# EAGLE library part DAUGHTERBOARD (library Daughterboard)
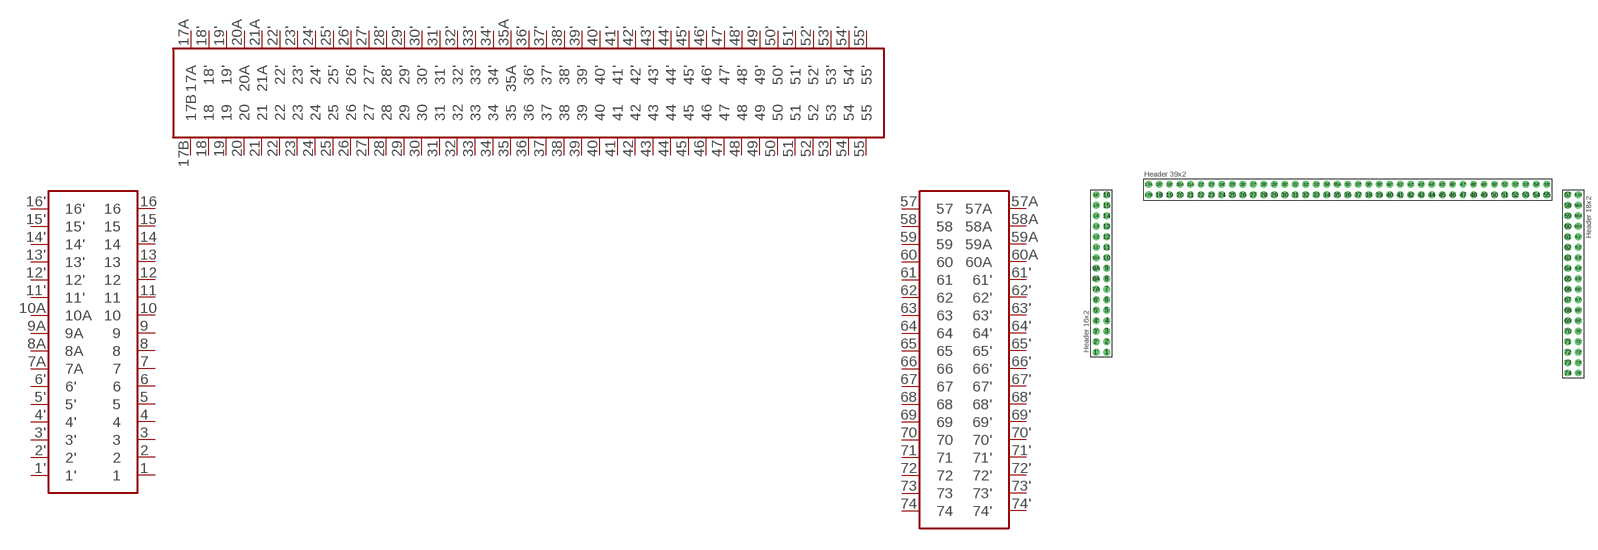
[diagram p0: symbol with the pads of DAUGHTERBOARD; footprint DAUGHTERBOARD]

Designator prefix -

## DAUGHTERBOARDDAUGHTERBOARD  [DAUGHTERBOARD]
1  1  out
1'  1'  out
2  2  out
2'  2'  out
3  3  out
3'  3'  out
4  4  out
4'  4'  out
5  5  out
5'  5'  out
6  6  out
6'  6'  out
7  7  out
7A  7A  out
8  8  out
8A  8A  out
9  9  out
9A  9A  out
10  10  out
10A  10A  out
11  11  out
11'  11'  out
12  12  out
12'  12'  out
13  13  out
13'  13'  out
14  14  out
14'  14'  out
15  15  out
15'  15'  out
16  16  out
16'  16'  out
17A  17A  out
17B  17B  out
18  18  out
18'  18'  out
19  19  out
19'  19'  out
20  20  out
20A  20A  out
21  21  out
21A  21A  out
22  22  out
22'  22'  out
23  23  out
23'  23'  out
24  24  out
24'  24'  out
25  25  out
25'  25'  out
26  26  out
26'  26'  out
27  27  out
27'  27'  out
28  28  out
28'  28'  out
29  29  out
29'  29'  out
30  30  out
30'  30'  out
31  31  out
31'  31'  out
32  32  out
32'  32'  out
33  33  out
33'  33'  out
34  34  out
34'  34'  out
35  35  out
35A  35A  out
36  36  out
36'  36'  out
37  37  out
37'  37'  out
38  38  out
38'  38'  out
39  39  out
39'  39'  out
40  40  out
40'  40'  out
41  41  out
41'  41'  out
42  42  out
42'  42'  out
43  43  out
43'  43'  out
44  44  out
44'  44'  out
45  45  out
45'  45'  out
46  46  out
46'  46'  out
47  47  out
47'  47'  out
48  48  out
48'  48'  out
49  49  out
49'  49'  out
50  50  out
50'  50'  out
51  51  out
51'  51'  out
52  52  out
52'  52'  out
53  53  out
53'  53'  out
54  54  out
54'  54'  out
55  55  out
55'  55'  out
57  57  out
57A  57A  out
58  58  out
58A  58A  out
59  59  out
59A  59A  out
60  60  out
60A  60A  out
61  61  out
61'  61'  out
62  62  out
62'  62'  out
63  63  out
63'  63'  out
64  64  out
64'  64'  out
65  65  out
65'  65'  out
66  66  out
66'  66'  out
67  67  out
67'  67'  out
68  68  out
68'  68'  out
69  69  out
69'  69'  out
70  70  out
70'  70'  out
71  71  out
71'  71'  out
72  72  out
72'  72'  out
73  73  out
73'  73'  out
74  74  out
74'  74'  out

## Footprint DAUGHTERBOARD (pad centres in mm)
drill 1 pad 1.676: 1 -22.86,-22.86; 1' -25.4,-22.86; 2 -22.86,-20.32; 2' -25.4,-20.32; 3 -22.86,-17.78; 3' -25.4,-17.78; 4 -22.86,-15.24; 4' -25.4,-15.24; 5 -22.86,-12.7; 5' -25.4,-12.7; 6 -22.86,-10.16; 6' -25.4,-10.16; 7 -22.86,-7.62; 7A -25.4,-7.62; 8 -22.86,-5.08; 8A -25.4,-5.08; 9 -22.86,-2.54; 9A -25.4,-2.54; 10 -22.86,0; 10A -25.4,0; 11 -22.86,2.54; 11' -25.4,2.54; 12 -22.86,5.08; 12' -25.4,5.08; 13 -22.86,7.62; 13' -25.4,7.62; 14 -22.86,10.16; 14' -25.4,10.16; 15 -22.86,12.7; 15' -25.4,12.7; 16 -22.86,15.24; 16' -25.4,15.24; 17A -12.7,17.78; 17B -12.7,15.24; 18 -10.16,15.24; 18' -10.16,17.78; 19 -7.62,15.24; 19' -7.62,17.78; 20 -5.08,15.24; 20A -5.08,17.78; 21 -2.54,15.24; 21A -2.54,17.78; 22 0,15.24; 22' 0,17.78; 23 2.54,15.24; 23' 2.54,17.78; 24 5.08,15.24; 24' 5.08,17.78; 25 7.62,15.24; 25' 7.62,17.78; 26 10.16,15.24; 26' 10.16,17.78; 27 12.7,15.24; 27' 12.7,17.78; 28 15.24,15.24; 28' 15.24,17.78; 29 17.78,15.24; 29' 17.78,17.78; 30 20.32,15.24; 30' 20.32,17.78; 31 22.86,15.24; 31' 22.86,17.78; 32 25.4,15.24; 32' 25.4,17.78; 33 27.94,15.24; 33' 27.94,17.78; 34 30.48,15.24; 34' 30.48,17.78; 35 33.02,15.24; 35A 33.02,17.78; 36 35.56,15.24; 36' 35.56,17.78; 37 38.1,15.24; 37' 38.1,17.78; 38 40.64,15.24; 38' 40.64,17.78; 39 43.18,15.24; 39' 43.18,17.78; 40 45.72,15.24; 40' 45.72,17.78; 41 48.26,15.24; 41' 48.26,17.78; 42 50.8,15.24; 42' 50.8,17.78; 43 53.34,15.24; 43' 53.34,17.78; 44 55.88,15.24; 44' 55.88,17.78; 45 58.42,15.24; 45' 58.42,17.78; 46 60.96,15.24; 46' 60.96,17.78; 47 63.5,15.24; 47' 63.5,17.78; 48 66.04,15.24; 48' 66.04,17.78; 49 68.58,15.24; 49' 68.58,17.78; 50 71.12,15.24; 50' 71.12,17.78; 51 73.66,15.24; 51' 73.66,17.78; 52 76.2,15.24; 52' 76.2,17.78; 53 78.74,15.24; 53' 78.74,17.78; 54 81.28,15.24; 54' 81.28,17.78; 55 83.82,15.24; 55' 83.82,17.78; 57 88.9,15.24; 57A 91.44,15.24; 58 88.9,12.7; 58A 91.44,12.7; 59 88.9,10.16; 59A 91.44,10.16; 60 88.9,7.62; 60A 91.44,7.62; 61 88.9,5.08; 61' 91.44,5.08; 62 88.9,2.54; 62' 91.44,2.54; 63 88.9,0; 63' 91.44,0; 64 88.9,-2.54; 64' 91.44,-2.54; 65 88.9,-5.08; 65' 91.44,-5.08; 66 88.9,-7.62; 66' 91.44,-7.62; 67 88.9,-10.16; 67' 91.44,-10.16; 68 88.9,-12.7; 68' 91.44,-12.7; 69 88.9,-15.24; 69' 91.44,-15.24; 70 88.9,-17.78; 70' 91.44,-17.78; 71 88.9,-20.32; 71' 91.44,-20.32; 72 88.9,-22.86; 72' 91.44,-22.86; 73 88.9,-25.4; 73' 91.44,-25.4; 74 88.9,-27.94; 74' 91.44,-27.94